# Altium footprint library KN2CLib.PcbLib: 142 footprints (part 7 of 9)
Each footprint in its own frame and in the unit in brackets; x right, y up, seen from the top. Pads: shape width x height; smd on the part's side, far side on the other; paste and mask are expansions set on the pad; w line width, h text height; cw(c..) or ccw(c..) is an arc to the next point about the centre after c.
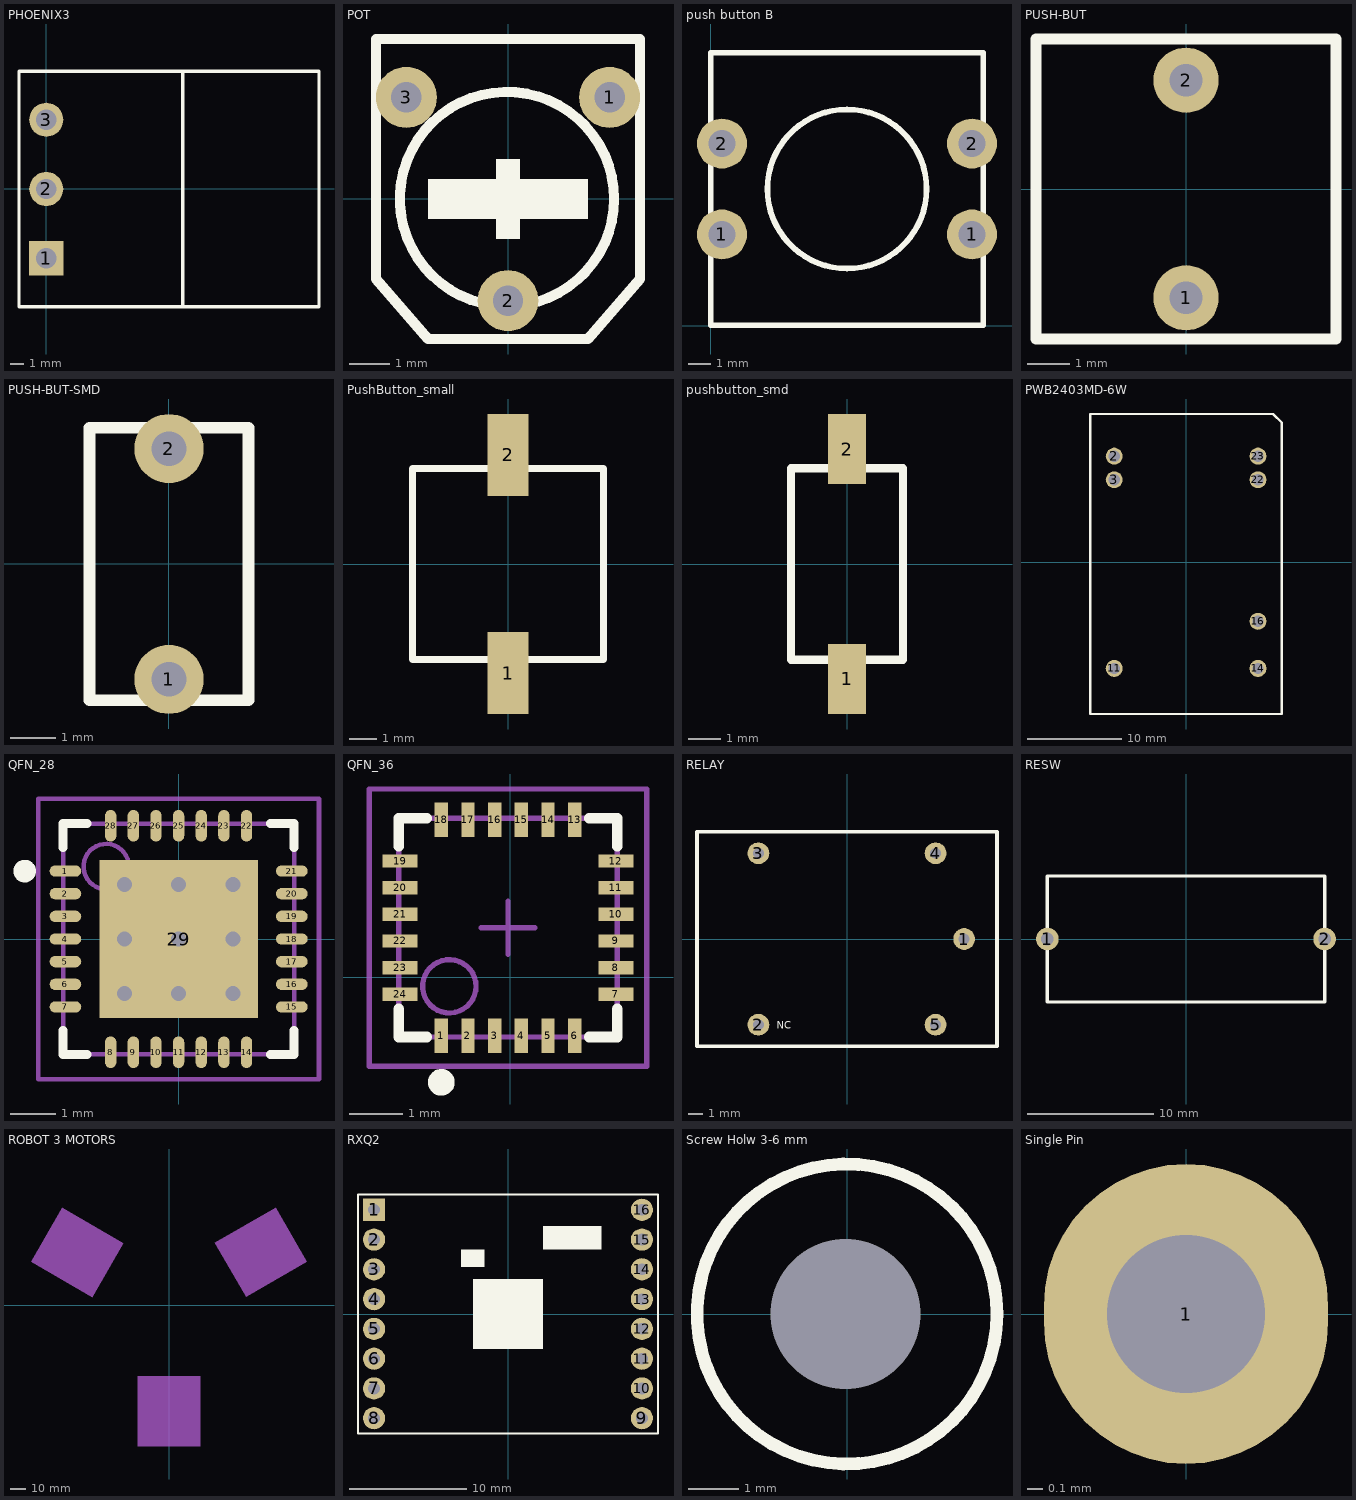
[diagram p6: the footprints below, top view; thin cyan lines are the x and y axes]

## PHOENIX3 [mm]
pads (3):
  rect 2.5x2.5 hole 1.5: 1(0,-5.08)
  round 2.5 hole 1.5: 2(0,0) 3(0,5.08)
Top Overlay:
  lines w0.254: 10,-8.62 10,8.62 ; -2,-8.62 -2,8.62 20,8.62 20,-8.62 -2,-8.62
3D body: height 15, standoff 0, extent 10.008,-8.585 19.964,8.611
3D body: height 8.6, standoff 0, extent -1.981,-8.611 10.008,8.611

## POT [mil]
pads (3):
  round 60 hole 30: 1(100,100) 2(0,-100) 3(-100,100)
Top Overlay:
  circle w10: c-1,0 r105.42
  rectangle: -11.81,-39.37 11.81,39.37
  rectangle: -78.74,-19.68 78.74,19.68
  lines w10: -129.92,-78.74 -129.92,157.48 129.92,157.48 129.92,-78.74 78.74,-137.8 -78.74,-137.8 -129.92,-78.74
3D body: height 157.48, standoff 0, extent -134.84,-136.81 129.92,157.48

## push button B [mm]
pads (4):
  round 2.2 hole 1.2: 1(0.5,4.024) 1(11.5,4.024) 2(0.5,8.024) 2(11.5,8.024)
Top Overlay:
  circle w0.254: c6,6.024 r3.5
  lines w0.254: 0,0.024 0,12.024 12,12.024 12,0.024 0,0.024

## PUSH-BUT [mil]
pads (2):
  round 60 hole 30: 1(0,-100) 2(0,100)
Top Overlay:
  lines w10: -137.8,-137.8 137.8,-137.8 137.8,137.8 -137.8,137.8 -137.8,-137.8
3D body: height 157.48, standoff 0, extent -138.78,-138.78 138.78,138.78

## PUSH-BUT-SMD [mil]
pads (2):
  round 60 hole 30: 1(0,-100) 2(0,100)
Top Overlay:
  lines w10: -68.9,-118.11 68.9,-118.11 68.9,118.11 -68.9,118.11 -68.9,-118.11
3D body: height 157.48, standoff 0, extent -69,-118 68,117

## PushButton_small [mm]
pads (2):
  rect 1.5x3 smd: 1(0,-4) 2(0,4)
Top Overlay:
  lines w0.254: -3.5,-3.5 3.5,-3.5 3.5,3.5 -3.5,3.5 -3.5,-3.5
3D body: height 4, standoff 0, extent -3.525,-3.525 3.525,3.525

## pushbutton_smd [mm]
pads (2):
  rect 1.2x2.2 smd: 1(0,-3.6) 2(0,3.6)
Top Overlay:
  lines w0.254: -1.75,-3 -1.75,3 1.75,3 1.75,-3 -1.75,-3
3D body: height 4, standoff 0, extent -1.753,-2.997 1.727,2.972

## PWB2403MD-6W [mm]
pads (7):
  round 1.8 hole 1.2: 2(-7.62,11.25) 3(-7.62,8.75) 11(-7.62,-11.25) 14(7.62,-11.25) 16(7.62,-6.25) 22(7.62,8.75) 23(7.62,11.25)
Top Overlay:
  lines w0.254: -10.16,-16.08 -10.16,15.72 9.223,15.72 10.14,14.803 10.14,-16.08 -10.16,-16.08
3D body: height 4, standoff 0, extent -10.15,-15.975 10.1,15.625

## QFN_28 [mm] "QFN, 28-Leads, Body 5.1x5.1mm (max), Pitch 0.50mm, IPC Medium Density"
height 0.8
pads (29):
  oval 0.7x0.25 smd: 1(-2.5,1.5) 2(-2.5,1) 3(-2.5,0.5) 4(-2.5,0) 5(-2.5,-0.5) 6(-2.5,-1) 7(-2.5,-1.5) 15(2.5,-1.5) 16(2.5,-1) 17(2.5,-0.5) 18(2.5,0) 19(2.5,0.5) 20(2.5,1) 21(2.5,1.5)
  oval 0.25x0.7 smd: 8(-1.5,-2.5) 9(-1,-2.5) 10(-0.5,-2.5) 11(0,-2.5) 12(0.5,-2.5) 13(1,-2.5) 14(1.5,-2.5) 22(1.5,2.5) 23(1,2.5) 24(0.5,2.5) 25(0,2.5) 26(-0.5,2.5) 27(-1,2.5) 28(-1.5,2.5)
  rect 3.5x3.5 smd: 29(0,0)
via -1.2,1.2 diameter 0.66 hole 0.33
via 0,1.2 diameter 0.66 hole 0.33
via 1.2,1.2 diameter 0.66 hole 0.33
via -1.2,0 diameter 0.66 hole 0.33
via 0,0 diameter 0.66 hole 0.33
via 1.2,0 diameter 0.66 hole 0.33
via -1.2,-1.2 diameter 0.66 hole 0.33
via 0,-1.2 diameter 0.66 hole 0.33
via 1.2,-1.2 diameter 0.66 hole 0.33
Top Overlay:
  circle w0.25: c-3.4,1.5 r0.125
  lines w0.2: -2.55,-2.025 -2.55,-2.55 -2.025,-2.55 ; -2.55,2.025 -2.55,2.55 -2.025,2.55 ; 2.025,-2.55 2.55,-2.55 2.55,-2.025 ; 2.025,2.55 2.55,2.55 2.55,2.025
Mechanical 13:
  circle w0.1: c-1.6,1.6 r0.5
  lines w0.1: -2.55,-2.55 -2.55,2.55 2.55,2.55 2.55,-2.55 -2.55,-2.55
Mechanical 15:
  lines w0.1: -0.5,0 0.5,0 ; 0,-0.5 0,0.5 ; -3.1,-3.1 -3.1,3.1 3.1,3.1 3.1,-3.1 -3.1,-3.1
3D body: height 0.8, standoff 0.02, extent -2.55,-2.55 2.55,2.55

## QFN_36 [mm]
pads (24):
  rect 0.25x0.65 smd: 1(-1.292,-1.094) 2(-0.792,-1.094) 3(-0.292,-1.094) 4(0.208,-1.094) 5(0.708,-1.094) 6(1.208,-1.094) 13(1.208,2.956) 14(0.708,2.956) 15(0.208,2.956) 16(-0.292,2.956) 17(-0.792,2.956) 18(-1.292,2.956)
  rect 0.65x0.25 smd: 7(1.983,-0.319) 8(1.983,0.181) 9(1.983,0.681) 10(1.983,1.181) 11(1.983,1.681) 12(1.983,2.181) 19(-2.067,2.181) 20(-2.067,1.681) 21(-2.067,1.181) 22(-2.067,0.681) 23(-2.067,0.181) 24(-2.067,-0.319)
Top Overlay:
  circle w0.25: c-1.292,-1.969 r0.125
  lines w0.2: -2.092,-0.594 -2.092,-1.119 -1.567,-1.119 ; -2.092,2.456 -2.092,2.981 -1.567,2.981 ; 1.483,-1.119 2.008,-1.119 2.008,-0.594 ; 1.483,2.981 2.008,2.981 2.008,2.456
Mechanical 13:
  circle w0.1: c-1.142,-0.169 r0.5
  lines w0.1: -2.092,-1.119 2.008,-1.119 2.008,2.981 -2.092,2.981 -2.092,-1.119
Mechanical 15:
  lines w0.1: -0.542,0.931 0.458,0.931 ; -0.042,0.431 -0.042,1.431 ; -2.642,-1.669 2.558,-1.669 2.558,3.531 -2.642,3.531 -2.642,-1.669
3D body: height 0.95, standoff 0.02, extent -2.092,-1.119 2.008,2.981

## RELAY [mil]
pads (5):
  round 60 hole 30: 1(322.83,0) 2(-244.09,-236.22) 3(-244.09,236.22) 4(244.09,236.22) 5(244.09,-236.22)
Top Overlay:
  lines w10: -413.39,-295.28 -413.39,295.28 413.39,295.28 413.39,-295.28 -413.39,-295.28
  text "NC" at -193.1,-247.3 h19.68
3D body: height 157.48, standoff 0, extent -413.39,-295.28 411.42,293.31

## RESW [mm]
pads (2):
  round 1.8 hole 1: 1(-11,0) 2(11,0)
Top Overlay:
  lines w0.254: -11,-5 11,-5 11,5 -11,5 -11,-5
3D body: height 4, standoff 0, extent -11.025,-5 10.975,4.95

## ROBOT 3 MOTORS [mm]
Drill Guide:
  region: 19.984,-89.925 19.984,-71.925 -20.016,-71.925 -20.016,-89.925
  region: 12.437,-71.913 12.437,-21.913 -12.563,-21.913 -12.563,-71.913
  region: -52.316,53.28 -67.905,62.28 -87.905,27.639 -72.316,18.639
  region: -12.742,22.013 -56.043,47.013 -68.543,25.362 -25.242,0.362
  region: 25.335,0.212 68.636,25.212 56.136,46.863 12.835,21.863
  region: 72.382,18.696 87.971,27.696 67.971,62.337 52.382,53.337
  lines w0.254: -67.149,59.926 ccw(c0,0) 67.092,59.988 ; -67.149,60 67.092,60
Mechanical 1:
  region: 19.984,-89.925 19.984,-44.925 -20.016,-44.925 -20.016,-89.925
  region: -28.934,39.78 -67.905,62.28 -87.905,27.639 -48.934,5.139
  region: 49,5.196 87.971,27.696 67.971,62.337 29,39.837

## RXQ2 [mm]
pads (16):
  rect 1.9x1.9 hole 1: 1(-11.43,8.89)
  round 1.9 hole 1: 2(-11.43,6.35) 3(-11.43,3.81) 4(-11.43,1.27) 5(-11.43,-1.27) 6(-11.43,-3.81) 7(-11.43,-6.35) 8(-11.43,-8.89) 9(11.43,-8.89) 10(11.43,-6.35) 11(11.43,-3.81) 12(11.43,-1.27) 13(11.43,1.27) 14(11.43,3.81) 15(11.43,6.35) 16(11.43,8.89)
Top Overlay:
  rectangle: -4,4 -2,5.5
  rectangle: -3,-3 3,3
  rectangle: 3,5.5 8,7.5
  lines w0.2: -12.8,-10.2 12.8,-10.2 12.8,10.2 -12.8,10.2 -12.8,-10.2
3D body: height 5, standoff 3, extent -12.8,-10.2 12.8,10.2

## Screw Holw 3-6 mm [mm]
pads (1):
  round 0 hole 3: 0(-0.025,0)
Top Overlay:
  circle w0.254: c0,0 r3

## Single Pin [mm] "A Single Pin"
pads (1):
  oval 1.8x1.9 hole 1: 1(0,0)